# EAGLE library part ES_FV-1_REVERB_V1 (library Electrosmith_Boards)
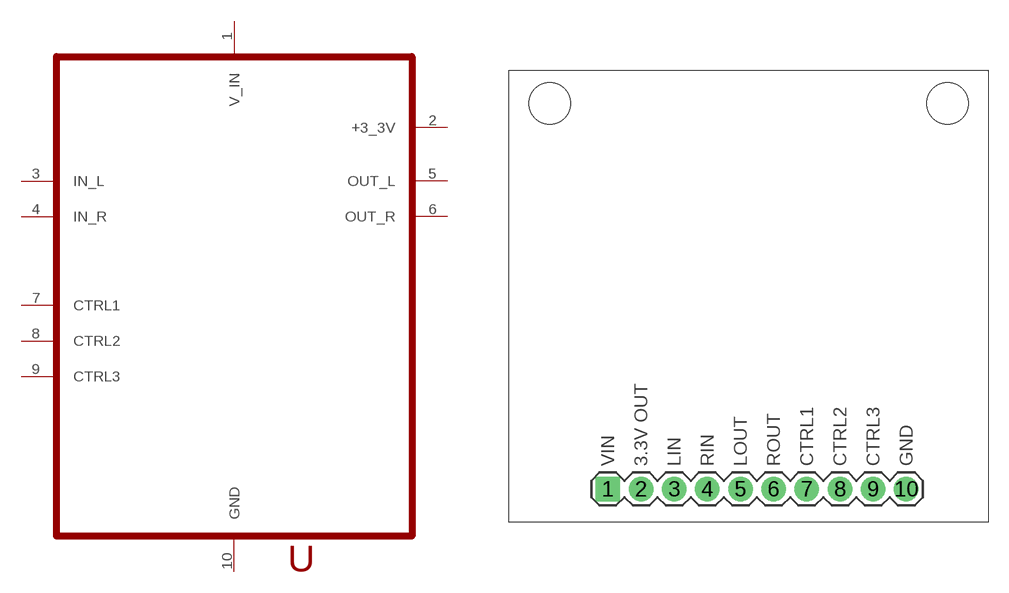
[diagram p10: symbol with the pads of ES_FV-1_STOCK_FX_V1; footprint ES_FV-1_STOCK_FX_V1]

Designator prefix -

## ES_FV-1_REVERB_V1  [ES_FV-1_STOCK_FX_V1]
1  V_IN
2  +3_3V
3  IN_L
4  IN_R
5  OUT_L
6  OUT_R
7  CTRL1
8  CTRL2
9  CTRL3
10  GND

## Footprint ES_FV-1_STOCK_FX_V1 (pad centres in mm)
drill 1.016 pad 1.88 square: 1 -10.785,-14.758
drill 1.016 pad 1.88: 2 -8.245,-14.758; 3 -5.705,-14.758; 4 -3.165,-14.758; 5 -0.625,-14.758; 6 1.915,-14.758; 7 4.455,-14.758; 8 6.995,-14.758; 9 9.535,-14.758; 10 12.075,-14.758
hole 3.175 at -15.23,14.77
hole 3.175 at 15.25,14.77